# Altium footprint library Capacitors.PcbLib: 13 footprints
Each footprint in its own frame and in the unit in brackets; x right, y up, seen from the top. Pads: shape width x height; smd on the part's side, far side on the other; paste and mask are expansions set on the pad; w line width, h text height; cw(c..) or ccw(c..) is an arc to the next point about the centre after c.
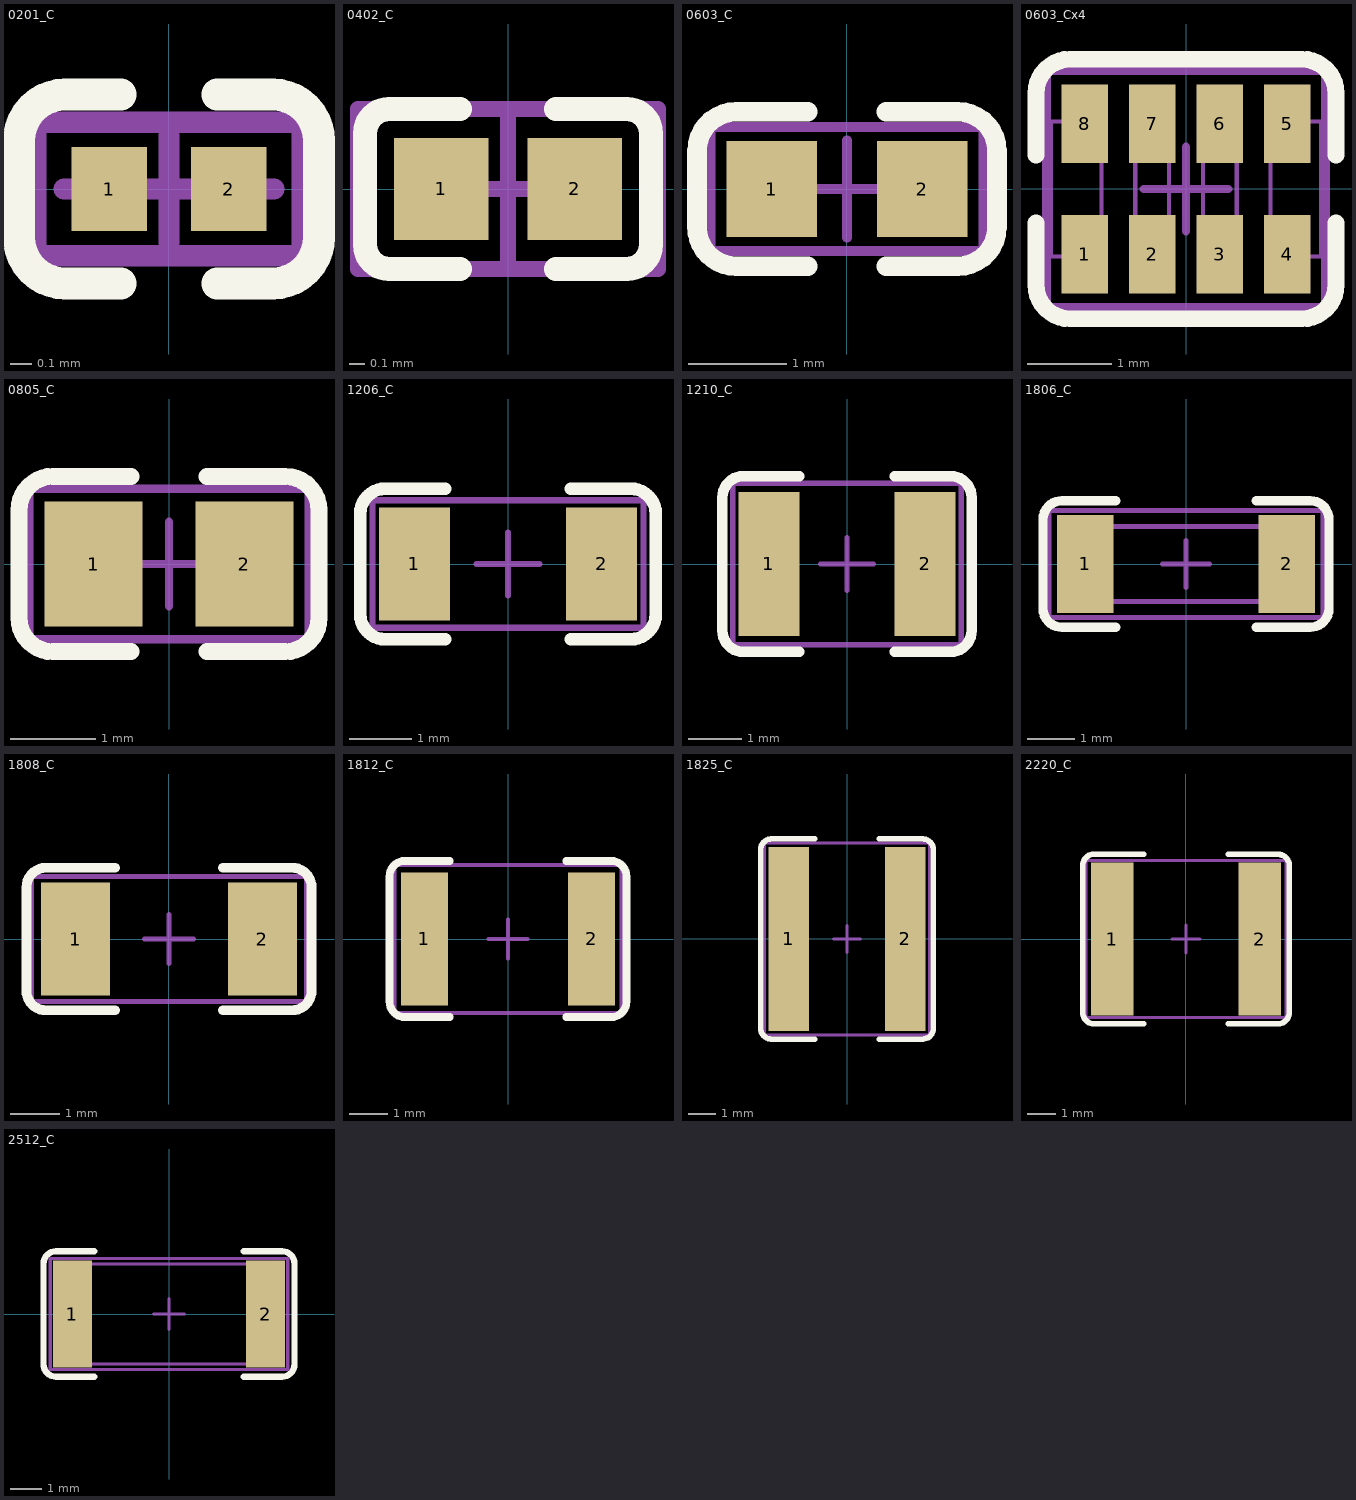
[diagram p0: the footprints below, top view; thin cyan lines are the x and y axes]

## 0201_C [mm]
pads (2):
  rect 0.36x0.4 smd mask+0.051: 1(-0.285,0) 2(0.285,0)
Top Overlay:
  lines w0.152: -0.23,-0.45 -0.495,-0.45 cw(c-0.495,-0.23) -0.715,-0.23 -0.715,0.23 cw(c-0.495,0.23) -0.495,0.45 -0.23,0.45 ; 0.23,-0.45 0.495,-0.45 ccw(c0.495,-0.23) 0.715,-0.23 0.715,0.23 ccw(c0.495,0.23) 0.495,0.45 0.23,0.45
Top Courtyard:
  lines w0.102: -0.635,-0.318 0.635,-0.318 0.635,0.318 -0.635,0.318 -0.635,-0.318
Top Component Center:
  lines w0.1: -0.5,0 0.5,0 ; 0,-0.254 0,0.254
3D body "User Library-0201(0603M) Cap.step": height 0.31, standoff 0, extent -0.305,-0.152 0.305,0.153

## 0402_C [mm]
pads (2):
  rect 0.6x0.65 smd mask+0.051: 1(-0.425,0) 2(0.425,0)
Top Overlay:
  lines w0.152: -0.305,-0.507 -0.755,-0.507 cw(c-0.755,-0.355) -0.907,-0.355 -0.907,0.355 cw(c-0.755,0.355) -0.755,0.507 -0.305,0.507 ; 0.305,-0.507 0.755,-0.507 ccw(c0.755,-0.355) 0.907,-0.355 0.907,0.355 ccw(c0.755,0.355) 0.755,0.507 0.305,0.507
Top Courtyard:
  lines w0.102: -0.953,-0.508 0.953,-0.508 0.953,0.508 -0.953,0.508 -0.953,-0.508
Top Component Center:
  lines w0.1: -0.5,0 0.5,0 ; 0,-0.5 0,0.5
3D body "0402 SMD Capacitor.step": height 0.2, standoff 0, extent -0.483,-0.3 0.517,0.3

## 0603_C [mm]
pads (2):
  rect 0.93x0.98 smd: 1(-0.77,0) 2(0.77,0)
Top Overlay:
  lines w0.2: -0.4,-0.79 -1.135,-0.79 cw(c-1.135,-0.39) -1.535,-0.39 -1.535,0.39 cw(c-1.135,0.39) -1.135,0.79 -0.4,0.79 ; 0.4,-0.79 1.135,-0.79 ccw(c1.135,-0.39) 1.535,-0.39 1.535,0.39 ccw(c1.135,0.39) 1.135,0.79 0.4,0.79
Top Courtyard:
  lines w0.102: -1.397,-0.635 1.397,-0.635 1.397,0.635 -1.397,0.635 -1.397,-0.635
Top Component Center:
  lines w0.1: -0.5,0 0.5,0 ; 0,-0.5 0,0.5
3D body "User Library-0603 SMD Capacitor.STEP": height 0.3, standoff 0, extent -0.8,-0.4 0.8,0.4

## 0603_Cx4 [mm]
pads (8):
  rect 0.55x0.93 smd mask+0.051: 1(-1.2,-0.77) 2(-0.4,-0.77) 3(0.4,-0.77) 4(1.2,-0.77) 5(1.2,0.77) 6(0.4,0.77) 7(-0.4,0.77) 8(-1.2,0.77)
Top Overlay:
  lines w0.2: -1.775,-0.4 -1.775,-1.135 ccw(c-1.375,-1.135) -1.375,-1.535 1.375,-1.535 ccw(c1.375,-1.135) 1.775,-1.135 1.775,-0.4 ; -1.775,0.4 -1.775,1.135 cw(c-1.375,1.135) -1.375,1.535 1.375,1.535 cw(c1.375,1.135) 1.775,1.135 1.775,0.4
Top Courtyard:
  lines w0.102: -1.651,-1.397 1.651,-1.397 1.651,1.397 -1.651,1.397 -1.651,-1.397
Top Component Outline:
  lines w0.05: -1.6,-0.8 -1.6,0.8 -1,0.8 -1,-0.8 -1.6,-0.8 ; -0.6,-0.8 -0.6,0.8 -0.2,0.8 -0.2,-0.8 -0.6,-0.8 ; 0.2,-0.8 0.2,0.8 0.6,0.8 0.6,-0.8 0.2,-0.8 ; 1,-0.8 1,0.8 1.6,0.8 1.6,-0.8 1,-0.8
Bottom Component Outline:
  lines w0.1: -0.5,0 0.5,0 ; 0,-0.5 0,0.5

## 0805_C [mm]
pads (2):
  rect 1.16x1.47 smd: 1(-0.89,0) 2(0.89,0)
Top Overlay:
  lines w0.2: -0.45,-1.035 -1.37,-1.035 cw(c-1.37,-0.635) -1.77,-0.635 -1.77,0.635 cw(c-1.37,0.635) -1.37,1.035 -0.45,1.035 ; 0.45,-1.035 1.37,-1.035 ccw(c1.37,-0.635) 1.77,-0.635 1.77,0.635 ccw(c1.37,0.635) 1.37,1.035 0.45,1.035
Top Courtyard:
  lines w0.102: -1.651,-0.889 1.651,-0.889 1.651,0.889 -1.651,0.889 -1.651,-0.889
Top Component Center:
  lines w0.1: -0.5,0 0.5,0 ; 0,-0.5 0,0.5
3D body "User Library-0805 SMD Capacitor.STEP": height 0.77, standoff -0.01, extent -1,-0.625 1.001,0.625

## 1206_C [mm]
pads (2):
  rect 1.13x1.8 smd: 1(-1.49,0) 2(1.49,0)
Top Overlay:
  lines w0.2: -1,-1.2 -1.955,-1.2 cw(c-1.955,-0.8) -2.355,-0.8 -2.355,0.8 cw(c-1.955,0.8) -1.955,1.2 -1,1.2 ; 1,-1.2 1.955,-1.2 ccw(c1.955,-0.8) 2.355,-0.8 2.355,0.8 ccw(c1.955,0.8) 1.955,1.2 1,1.2
Top Courtyard:
  lines w0.102: -2.159,-1.016 2.159,-1.016 2.159,1.016 -2.159,1.016 -2.159,-1.016
Top Component Center:
  lines w0.1: -0.5,0 0.5,0 ; 0,-0.5 0,0.5
3D body "C1206.STEP": height 1, standoff 0, extent -1.602,-0.813 1.598,0.787

## 1210_C [mm]
pads (2):
  rect 1.16x2.72 smd: 1(-1.475,0) 2(1.475,0)
Top Overlay:
  lines w0.2: -0.9,-1.66 -1.955,-1.66 cw(c-1.955,-1.26) -2.355,-1.26 -2.355,1.26 cw(c-1.955,1.26) -1.955,1.66 -0.9,1.66 ; 0.9,-1.66 1.955,-1.66 ccw(c1.955,-1.26) 2.355,-1.26 2.355,1.26 ccw(c1.955,1.26) 1.955,1.66 0.9,1.66
Top Courtyard:
  lines w0.102: -2.159,-1.524 2.159,-1.524 2.159,1.524 -2.159,1.524 -2.159,-1.524
Top Component Center:
  lines w0.1: -0.5,0 0.5,0 ; 0,-0.5 0,0.5
3D body "User Library-cap_1210_lowprofile.step": height 1.3, standoff 0, extent -1.6,-1.25 1.6,1.25

## 1806_C [mm]
pads (2):
  rect 1.2x2.1 smd: 1(-2.15,0) 2(2.15,0)
Top Overlay:
  lines w0.2: -1.5,-1.35 -2.65,-1.35 cw(c-2.65,-0.95) -3.05,-0.95 -3.05,0.95 cw(c-2.65,0.95) -2.65,1.35 -1.5,1.35 ; 1.5,-1.35 2.65,-1.35 ccw(c2.65,-0.95) 3.05,-0.95 3.05,0.95 ccw(c2.65,0.95) 2.65,1.35 1.5,1.35
Top Courtyard:
  lines w0.102: -2.921,-1.143 2.921,-1.143 2.921,1.143 -2.921,1.143 -2.921,-1.143
Top Component Outline:
  lines w0.1: -2.25,-0.8 -2.25,0.8 2.25,0.8 2.25,-0.8 -2.25,-0.8
Top Component Center:
  lines w0.1: -0.5,0 0.5,0 ; 0,-0.5 0,0.5

## 1808_C [mm]
pads (2):
  rect 1.4x2.3 smd: 1(-1.9,0) 2(1.9,0)
Top Overlay:
  lines w0.2: -1.1,-1.45 -2.5,-1.45 cw(c-2.5,-1.05) -2.9,-1.05 -2.9,1.05 cw(c-2.5,1.05) -2.5,1.45 -1.1,1.45 ; 1.1,-1.45 2.5,-1.45 ccw(c2.5,-1.05) 2.9,-1.05 2.9,1.05 ccw(c2.5,1.05) 2.5,1.45 1.1,1.45
Top Courtyard:
  lines w0.102: -2.794,-1.27 2.794,-1.27 2.794,1.27 -2.794,1.27 -2.794,-1.27
Top Component Center:
  lines w0.1: -0.5,0 0.5,0 ; 0,-0.5 0,0.5
3D body "C1808.STEP": height 0.88, standoff -0.02, extent -2.25,-1 2.25,1

## 1812_C [mm]
pads (2):
  rect 1.2x3.42 smd: 1(-2.15,0) 2(2.15,0)
Top Overlay:
  lines w0.2: -1.5,-2.01 -2.65,-2.01 cw(c-2.65,-1.61) -3.05,-1.61 -3.05,1.61 cw(c-2.65,1.61) -2.65,2.01 -1.5,2.01 ; 1.5,-2.01 2.65,-2.01 ccw(c2.65,-1.61) 3.05,-1.61 3.05,1.61 ccw(c2.65,1.61) 2.65,2.01 1.5,2.01
Top Courtyard:
  lines w0.102: -2.921,-1.905 2.921,-1.905 2.921,1.905 -2.921,1.905 -2.921,-1.905
Top Component Center:
  lines w0.1: -0.5,0 0.5,0 ; 0,-0.5 0,0.5
3D body "SW3dPS-1812 SMD Capacitor.STEP": height 1.6, standoff 0, extent -2.25,-1.6 2.25,1.6

## 1825_C [mm]
pads (2):
  rect 1.5x6.81 smd: 1(-2.15,0) 2(2.15,0)
Top Overlay:
  lines w0.203: -1.2,-3.705 -2.8,-3.705 cw(c-2.8,-3.305) -3.2,-3.305 -3.2,3.305 cw(c-2.8,3.305) -2.8,3.705 -1.2,3.705 ; 1.2,-3.705 2.8,-3.705 ccw(c2.8,-3.305) 3.2,-3.305 3.2,3.305 ccw(c2.8,3.305) 2.8,3.705 1.2,3.705
Top Courtyard:
  lines w0.102: -3.048,-3.556 3.048,-3.556 3.048,3.556 -3.048,3.556 -3.048,-3.556
Top Component Center:
  lines w0.1: -0.5,0 0.5,0 ; 0,-0.5 0,0.5
3D body "User Library-CAPC4564X13.STEP": height 1.3, standoff 0, extent -2.25,-3.2 2.25,3.2

## 2220_C [mm]
pads (2):
  rect 1.5x5.42 smd: 1(-2.62,0) 2(2.62,0)
Top Overlay:
  lines w0.2: -1.5,-3.01 -3.27,-3.01 cw(c-3.27,-2.61) -3.67,-2.61 -3.67,2.61 cw(c-3.27,2.61) -3.27,3.01 -1.5,3.01 ; 1.5,-3.01 3.27,-3.01 ccw(c3.27,-2.61) 3.67,-2.61 3.67,2.61 ccw(c3.27,2.61) 3.27,3.01 1.5,3.01
Top Courtyard:
  lines w0.102: -3.556,-2.794 3.556,-2.794 3.556,2.794 -3.556,2.794 -3.556,-2.794
Top Component Center:
  lines w0.1: -0.5,0 0.5,0 ; 0,-0.5 0,0.5
3D body "User Library-CAPC5750X23.STEP": height 2.3, standoff 0, extent -2.85,-2.5 2.85,2.5

## 2512_C [mm]
pads (2):
  rect 1.25x3.42 smd: 1(-3.1,0) 2(3.1,0)
Top Overlay:
  lines w0.203: -2.4,-2.01 -3.625,-2.01 cw(c-3.625,-1.61) -4.025,-1.61 -4.025,1.61 cw(c-3.625,1.61) -3.625,2.01 -2.4,2.01 ; 2.4,-2.01 3.625,-2.01 ccw(c3.625,-1.61) 4.025,-1.61 4.025,1.61 ccw(c3.625,1.61) 3.625,2.01 2.4,2.01
Top Courtyard:
  lines w0.102: -3.81,-1.778 3.81,-1.778 3.81,1.778 -3.81,1.778 -3.81,-1.778
Top Component Outline:
  lines w0.1: -3.15,-1.6 -3.15,1.6 3.15,1.6 3.15,-1.6 -3.15,-1.6
Top Component Center:
  lines w0.1: -0.5,0 0.5,0 ; 0,-0.5 0,0.5